# Altium footprint library QUTMS_IsolatorLibrary.PcbLib: 2 footprints
Each footprint in its own frame and in the unit in brackets; x right, y up, seen from the top. Pads: shape width x height; smd on the part's side, far side on the other; paste and mask are expansions set on the pad; w line width, h text height; cw(c..) or ccw(c..) is an arc to the next point about the centre after c.
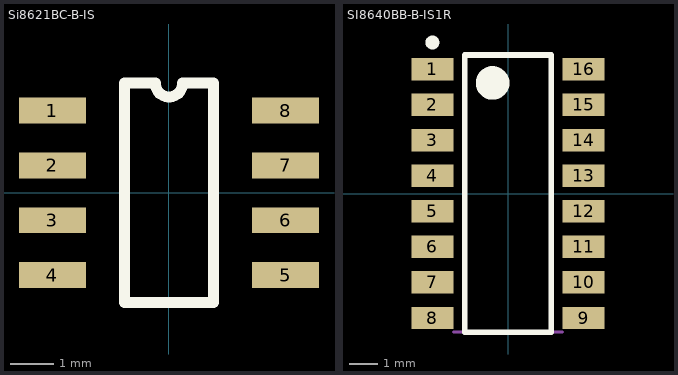
[diagram p0: the footprints below, top view; thin cyan lines are the x and y axes]

## Si8621BC-B-IS [mm]
pads (8):
  rect 1.55x0.6 smd: 1(-2.7,1.905) 2(-2.7,0.635) 3(-2.7,-0.635) 4(-2.7,-1.905) 5(2.7,-1.905) 6(2.7,-0.635) 7(2.7,0.635) 8(2.7,1.905)
Top Overlay:
  lines w0.254: -1.036,-2.54 -1.036,2.54 -0.317,2.54 ccw(c0,2.54) 0.318,2.54 1.036,2.54 1.036,-2.54 -1.036,-2.54
3D body "D0008A.stp": height 1.63, standoff 0, extent -3.011,-2.449 3.012,2.453

## SI8640BB-B-IS1R [mm] "SOIC, 16-Leads, Body 9.90x3.90mm, Pitch 1.27mm, IPC Medium Density"
height 1.75
pads (16):
  rect 1.5x0.8 smd: 1(-2.7,4.445) 2(-2.7,3.175) 3(-2.7,1.905) 4(-2.7,0.635) 5(-2.7,-0.635) 6(-2.7,-1.905) 7(-2.7,-3.175) 8(-2.7,-4.445) 9(2.7,-4.445) 10(2.7,-3.175) 11(2.7,-1.905) 12(2.7,-0.635) 13(2.7,0.635) 14(2.7,1.905) 15(2.7,3.175) 16(2.7,4.445)
Top Overlay:
  circle w0.6: c-0.55,3.95 r0.3
  circle w0.25: c-2.7,5.395 r0.125
  lines w0.2: -1.55,-4.95 1.55,-4.95 1.55,4.95 -1.55,4.95 -1.55,-4.95
Mechanical 13:
  lines w0.1: -1.95,-4.95 1.95,-4.95
3D body "SO16 Narrow 3.9mm.step": height 1.35, standoff 0, extent -2.99,-4.95 2.99,4.95